# Altium schematic symbol library Schematic-Lib-ABahlmann-CON.SchLib: 147 symbols (part 1 of 2)
Pins are listed as number, name and electrical type; pins without a type are passive.

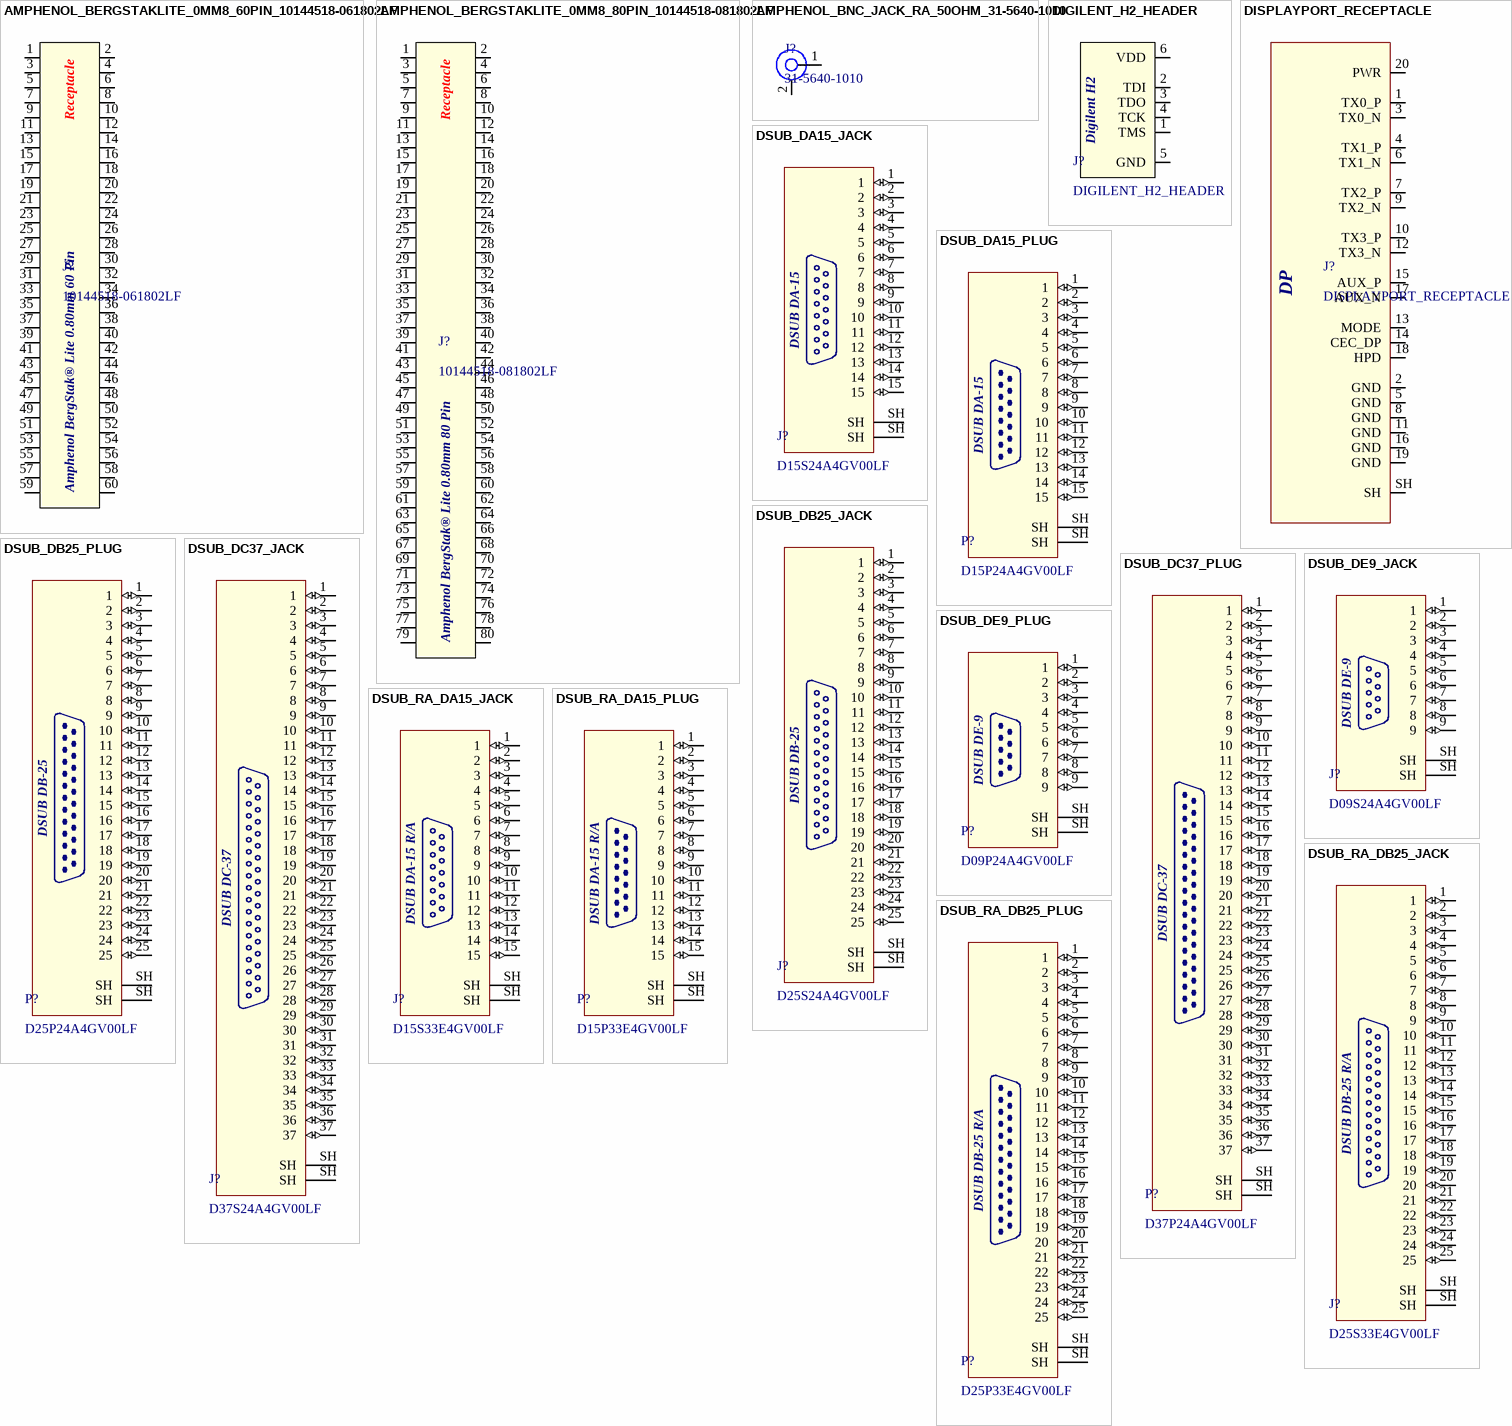
[diagram p0: symbols AMPHENOL_BERGSTAKLITE_0MM8_60PIN_10144518-061802LF to DSUB_RA_DB25_PLUG]

## AMPHENOL_BERGSTAKLITE_0MM8_60PIN_10144518-061802LF
designator J?, comment 10144518-061802LF
BergStak® Lite 0.80mm, 60 Position Connector Plug, Center Strip Contacts Surface Mount Gold; ComponentLink1Description: Digikey; ComponentLink1URL: https://www.digikey.com/en/products/detail/amphenol-cs-fci/10144518-061802LF/8572990; ComponentLink2Description: Datasheet; ComponentLink2URL: https://cdn.amphenol-cs.com/media/wysiwyg/files/documentation/datasheet/boardwiretoboard/bwb_bergstak_lite_0_80mm.pdf
footprint AMPHENOL_BERGSTAKLITE_0MM8_60PIN_10144518-061802LF (BergStak® Lite 0.80mm, 60 Position Connector Plug, Center Strip Contacts Surface Mount Gold)
pins: 1, 2, 3, 4, 5, 6, 7, 8, 9, 10, 11, 12, 13, 14, 15, 16, 17, 18, 19, 20, 21, 22, 23, 24, 25, 26, 27, 28, 29, 30, 31, 32, 33, 34, 35, 36, 37, 38, 39, 40, 41, 42, 43, 44, 45, 46, 47, 48, 49, 50, 51, 52, 53, 54, 55, 56, 57, 58, 59, 60
text: Receptacle; Amphenol BergStak® Lite 0.80mm 60 Pin

## AMPHENOL_BERGSTAKLITE_0MM8_80PIN_10144518-081802LF
designator J?, comment 10144518-081802LF
BergStak® Lite 0.80mm, 80 Position Connector Plug, Center Strip Contacts Surface Mount Gold; ComponentLink1Description: Digikey; ComponentLink1URL: https://www.digikey.com/en/products/detail/amphenol-cs-fci/10144518-081802LF/8572994; ComponentLink2Description: Datasheet; ComponentLink2URL: https://cdn.amphenol-cs.com/media/wysiwyg/files/documentation/datasheet/boardwiretoboard/bwb_bergstak_lite_0_80mm.pdf
footprint AMPHENOL_BERGSTAKLITE_0MM8_80PIN_10144518-081802LF (BergStak® Lite 0.80mm, 80 Position Connector Plug, Center Strip Contacts Surface Mount Gold)
pins: 1, 2, 3, 4, 5, 6, 7, 8, 9, 10, 11, 12, 13, 14, 15, 16, 17, 18, 19, 20, 21, 22, 23, 24, 25, 26, 27, 28, 29, 30, 31, 32, 33, 34, 35, 36, 37, 38, 39, 40, 41, 42, 43, 44, 45, 46, 47, 48, 49, 50, 51, 52, 53, 54, 55, 56, 57, 58, 59, 60, 61, 62, 63, 64, 65, 66, 67, 68, 69, 70, 71, 72, 73, 74, 75, 76, 77, 78, 79, 80
text: Receptacle; Amphenol BergStak® Lite 0.80mm 80 Pin

## AMPHENOL_BNC_JACK_RA_50OHM_31-5640-1010
designator J?, comment 31-5640-1010
BNC Connector Jack, Female Socket 50 Ohms Panel Mount, Through Hole, Right Angle Solder; ComponentLink1Description: Digikey; ComponentLink1URL: https://www.digikey.ca/en/products/detail/amphenol-rf/31-5640-1010/241378; ComponentLink2Description: Datasheet; ComponentLink2URL: https://mm.digikey.com/Volume0/opasdata/d220001/medias/docus/6155/tmp_187197.tmp.pdf
footprint AMPHENOL_BNC_JACK_RA_50OHM_31-5640-1010 (BNC Connector Jack, Female Socket 50 Ohms Panel Mount, Through Hole, Right Angle Solder)
pins: 1 SIG, 2 GND

## DIGILENT_H2_HEADER
designator J?
Digilent HS2 6-Pin 2.54mm Pitch Header; ComponentLink1Description: Digikey; ComponentLink1URL: https://www.digikey.ca/en/products/detail/digilent-inc/410-249/3902812; ComponentLink2Description: Datasheet; ComponentLink2URL: https://digilent.com/reference/_media/jtag_hs2:jtag-hs2_rm.pdf; ComponentLink3Description: Digilent; ComponentLink3URL: https://digilent.com/shop/jtag-hs2-programming-cable/; ComponentLink4Description: Mouser; ComponentLink4URL: https://www.mouser.com/ProductDetail/Digilent/410-249?qs=WbxR7jUW5e8WiXE9RF7X0A%3D%3D
footprint DIGILENT_H2_HEADER (Digilent HS2 6-Pin 2.54mm Pitch Header)
pins: 1 TMS, 2 TDI, 3 TDO, 4 TCK, 5 GND, 6 VDD
text: Digilent H2

## DISPLAYPORT_RECEPTACLE
designator J?
DisplayPort Receptacle, Right-Angle
pins: 1 TX0_P, 2 GND, 3 TX0_N, 4 TX1_P, 5 GND, 6 TX1_N, 7 TX2_P, 8 GND, 9 TX2_N, 10 TX3_P, 11 GND, 12 TX3_N, 13 MODE, 14 CEC_DP, 15 AUX_P, 16 GND, 17 AUX_N, 18 HPD, 19 GND, 20 PWR, SH
text: DP

## DSUB_DA15_JACK
designator J?, comment D15S24A4GV00LF
15 Position D-Sub Receptacle, Female Sockets Connector.; ComponentLink1Description: Digikey; ComponentLink1URL: https://www.digikey.ca/en/products/detail/amphenol-cs-fci/D15S24A4GV00LF/1001811; ComponentLink2Description: Datasheet; ComponentLink2URL: https://mm.digikey.com/Volume0/opasdata/d220001/medias/docus/6257/io_dsub_brochure.pdf
footprint DSUB_DA15_JACK (15 Position D-Sub Receptacle, Female Sockets Connector. PN: D15S24A4GV00LF)
footprint DSUB_RA_DA15_JACK (15 Position D-Sub Receptacle, Right Angle, Female Sockets Connector. PN: D15S33E4GV00LF)
pins: 1 (io), 2 (io), 3 (io), 4 (io), 5 (io), 6 (io), 7 (io), 8 (io), 9 (io), 10 (io), 11 (io), 12 (io), 13 (io), 14 (io), 15 (io), SH, SH
text: DSUB DA-15

## DSUB_DA15_PLUG
designator P?, comment D15P24A4GV00LF
15 Position D-Sub Plug, Male Pins Connector; ComponentLink1Description: Digikey; ComponentLink1URL: https://www.digikey.ca/en/products/detail/amphenol-cs-fci/D15P24A4GV00LF/1001805; ComponentLink2Description: Datahseet; ComponentLink2URL: https://cdn.amphenol-cs.com/media/wysiwyg/files/documentation/datasheet/inputoutput/io_dsub_brochure.pdf
pins: 1 (io), 2 (io), 3 (io), 4 (io), 5 (io), 6 (io), 7 (io), 8 (io), 9 (io), 10 (io), 11 (io), 12 (io), 13 (io), 14 (io), 15 (io), SH, SH
text: DSUB DA-15

## DSUB_DB25_JACK
designator J?, comment D25S24A4GV00LF
25 Position D-Sub Receptacle, Female Sockets Connector; ComponentLink1Description: Digikey; ComponentLink1URL: https://www.digikey.ca/en/products/detail/amphenol-cs-fci/D25S24A4GV00LF/1001823; ComponentLink2Description: Datasheet; ComponentLink2URL: https://mm.digikey.com/Volume0/opasdata/d220001/medias/docus/6257/io_dsub_brochure.pdf
footprint DSUB_DB25_JACK (25 Position D-Sub Receptacle, Female Sockets Connector. PN: D25S24A4GV00LF)
footprint DSUB_RA_DB25_JACK (25 Position D-Sub Receptacle, Right Angle, Female Sockets Connector. PN: D25S33E4GV00LF)
pins: 1 (io), 2 (io), 3 (io), 4 (io), 5 (io), 6 (io), 7 (io), 8 (io), 9 (io), 10 (io), 11 (io), 12 (io), 13 (io), 14 (io), 15 (io), 16 (io), 17 (io), 18 (io), 19 (io), 20 (io), 21 (io), 22 (io), 23 (io), 24 (io), 25 (io), SH, SH
text: DSUB DB-25

## DSUB_DB25_PLUG
designator P?, comment D25P24A4GV00LF
25 Position D-Sub Plug, Male Pins Connector; ComponentLink1Description: Digikey; ComponentLink1URL: https://www.digikey.ca/en/products/detail/amphenol-cs-fci/D25P24A4GV00LF/1001817; ComponentLink2Description: Datahseet; ComponentLink2URL: https://mm.digikey.com/Volume0/opasdata/d220001/medias/docus/6257/io_dsub_brochure.pdf
pins: 1 (io), 2 (io), 3 (io), 4 (io), 5 (io), 6 (io), 7 (io), 8 (io), 9 (io), 10 (io), 11 (io), 12 (io), 13 (io), 14 (io), 15 (io), 16 (io), 17 (io), 18 (io), 19 (io), 20 (io), 21 (io), 22 (io), 23 (io), 24 (io), 25 (io), SH, SH
text: DSUB DB-25

## DSUB_DC37_JACK
designator J?, comment D37S24A4GV00LF
37 Position D-Sub Receptacle, Female Sockets Connector; ComponentLink1Description: Digikey; ComponentLink1URL: https://www.digikey.com/en/products/detail/amphenol-cs-fci/D37S24A4GV00LF/1536825; ComponentLink2Description: Datasheet; ComponentLink2URL: https://mm.digikey.com/Volume0/opasdata/d220001/medias/docus/6257/io_dsub_brochure.pdf
footprint DSUB_DC37_JACK (37 Position D-Sub Receptacle, Female Sockets Connector. PN: D37S24A4GV00LF)
footprint DSUB_RA_DC37_JACK (37 Position D-Sub Receptacle, Right Angle, Female Sockets Connector. PN: D37S33E4GV00LF)
pins: 1 (io), 2 (io), 3 (io), 4 (io), 5 (io), 6 (io), 7 (io), 8 (io), 9 (io), 10 (io), 11 (io), 12 (io), 13 (io), 14 (io), 15 (io), 16 (io), 17 (io), 18 (io), 19 (io), 20 (io), 21 (io), 22 (io), 23 (io), 24 (io), 25 (io), 26 (io), 27 (io), 28 (io), 29 (io), 30 (io), 31 (io), 32 (io), 33 (io), 34 (io), 35 (io), 36 (io), 37 (io), SH, SH
text: DSUB DC-37

## DSUB_DC37_PLUG
designator P?, comment D37P24A4GV00LF
37 Position D-Sub Plug, Male Pins Connector; ComponentLink1Description: Digikey; ComponentLink1URL: https://www.digikey.ca/en/products/detail/amphenol-cs-fci/D37P24A4GV00LF/1536960; ComponentLink2Description: Datasheet; ComponentLink2URL: https://mm.digikey.com/Volume0/opasdata/d220001/medias/docus/6257/io_dsub_brochure.pdf
pins: 1 (io), 2 (io), 3 (io), 4 (io), 5 (io), 6 (io), 7 (io), 8 (io), 9 (io), 10 (io), 11 (io), 12 (io), 13 (io), 14 (io), 15 (io), 16 (io), 17 (io), 18 (io), 19 (io), 20 (io), 21 (io), 22 (io), 23 (io), 24 (io), 25 (io), 26 (io), 27 (io), 28 (io), 29 (io), 30 (io), 31 (io), 32 (io), 33 (io), 34 (io), 35 (io), 36 (io), 37 (io), SH, SH
text: DSUB DC-37

## DSUB_DE9_JACK
designator J?, comment D09S24A4GV00LF
9 Position D-Sub Receptacle, Female Sockets Connector; ComponentLink1Description: Digikey; ComponentLink1URL: https://www.digikey.ca/en/products/detail/amphenol-cs-fci/D09S24A4GV00LF/1001799; ComponentLink2Description: Datasheet; ComponentLink2URL: https://cdn.amphenol-cs.com/media/wysiwyg/files/documentation/datasheet/inputoutput/io_dsub_brochure.pdf
footprint DSUB_DE9_JACK (9 Position D-Sub Receptacle, Female Sockets Connector. PN: D09S24A4GV00LF)
footprint DSUB_RA_DE9_JACK (9 Position D-Sub Receptacle, Right Angle, Female Sockets Connector. PN: D09S33E4GV00LF)
pins: 1 (io), 2 (io), 3 (io), 4 (io), 5 (io), 6 (io), 7 (io), 8 (io), 9 (io), SH, SH
text: DSUB DE-9

## DSUB_DE9_PLUG
designator P?, comment D09P24A4GV00LF
9 Position D-Sub Plug, Male Pins Connector; ComponentLink1Description: Digikey; ComponentLink1URL: https://www.digikey.ca/en/products/detail/amphenol-cs-fci/D09P24A4GV00LF/1001793; ComponentLink2Description: Datasheet; ComponentLink2URL: https://cdn.amphenol-cs.com/media/wysiwyg/files/documentation/datasheet/inputoutput/io_dsub_brochure.pdf
pins: 1 (io), 2 (io), 3 (io), 4 (io), 5 (io), 6 (io), 7 (io), 8 (io), 9 (io), SH, SH
text: DSUB DE-9

## DSUB_RA_DA15_JACK
designator J?, comment D15S33E4GV00LF
15 Position D-Sub Receptacle, Right Angle, Female Sockets Connector; ComponentLink1Description: Digikey; ComponentLink1URL: https://www.digikey.ca/en/products/detail/amphenol-cs-fci/D15S33E4GV00LF/1001812; ComponentLink2Description: Datasheet; ComponentLink2URL: https://cdn.amphenol-cs.com/media/wysiwyg/files/documentation/datasheet/inputoutput/io_dsub_brochure.pdf
footprint DSUB_RA_DA15_JACK (15 Position D-Sub Receptacle, Right Angle, Female Sockets Connector. PN: D15S33E4GV00LF)
pins: 1 (io), 2 (io), 3 (io), 4 (io), 5 (io), 6 (io), 7 (io), 8 (io), 9 (io), 10 (io), 11 (io), 12 (io), 13 (io), 14 (io), 15 (io), SH, SH
text: DSUB DA-15 R/A

## DSUB_RA_DA15_PLUG
designator P?, comment D15P33E4GV00LF
15 Position D-Sub Plug, Right Angle, Male Pins Connector. See D15P33E6GV00LF for alternative part in stock (ROHS original, ROHS3 new).; ComponentLink1Description: Digikey; ComponentLink1URL: https://www.digikey.ca/en/products/detail/amphenol-cs-fci/D15P33E4GV00LF/1001806; ComponentLink2Description: Datahseet; ComponentLink2URL: https://cdn.amphenol-cs.com/media/wysiwyg/files/documentation/datasheet/inputoutput/io_dsub_brochure.pdf
pins: 1 (io), 2 (io), 3 (io), 4 (io), 5 (io), 6 (io), 7 (io), 8 (io), 9 (io), 10 (io), 11 (io), 12 (io), 13 (io), 14 (io), 15 (io), SH, SH
text: DSUB DA-15 R/A

## DSUB_RA_DB25_JACK
designator J?, comment D25S33E4GV00LF
25 Position D-Sub Receptacle, Right Angle, Female Sockets Connector; ComponentLink1Description: Digikey; ComponentLink1URL: https://www.digikey.ca/en/products/detail/amphenol-cs-fci/D25S33E4GV00LF/1001824; ComponentLink2Description: Datasheet; ComponentLink2URL: https://mm.digikey.com/Volume0/opasdata/d220001/medias/docus/6257/io_dsub_brochure.pdf
footprint DSUB_RA_DB25_JACK (25 Position D-Sub Receptacle, Right Angle, Female Sockets Connector. PN: D25S33E4GV00LF)
pins: 1 (io), 2 (io), 3 (io), 4 (io), 5 (io), 6 (io), 7 (io), 8 (io), 9 (io), 10 (io), 11 (io), 12 (io), 13 (io), 14 (io), 15 (io), 16 (io), 17 (io), 18 (io), 19 (io), 20 (io), 21 (io), 22 (io), 23 (io), 24 (io), 25 (io), SH, SH
text: DSUB DB-25 R/A

## DSUB_RA_DB25_PLUG
designator P?, comment D25P33E4GV00LF
25 Position D-Sub Plug, Right Angle, Male Pins Connector; ComponentLink1Description: Digikey; ComponentLink1URL: https://www.digikey.ca/en/products/detail/amphenol-cs-fci/D25P33E4GV00LF/1001818; ComponentLink2Description: Datahseet; ComponentLink2URL: https://mm.digikey.com/Volume0/opasdata/d220001/medias/docus/6257/io_dsub_brochure.pdf
pins: 1 (io), 2 (io), 3 (io), 4 (io), 5 (io), 6 (io), 7 (io), 8 (io), 9 (io), 10 (io), 11 (io), 12 (io), 13 (io), 14 (io), 15 (io), 16 (io), 17 (io), 18 (io), 19 (io), 20 (io), 21 (io), 22 (io), 23 (io), 24 (io), 25 (io), SH, SH
text: DSUB DB-25 R/A

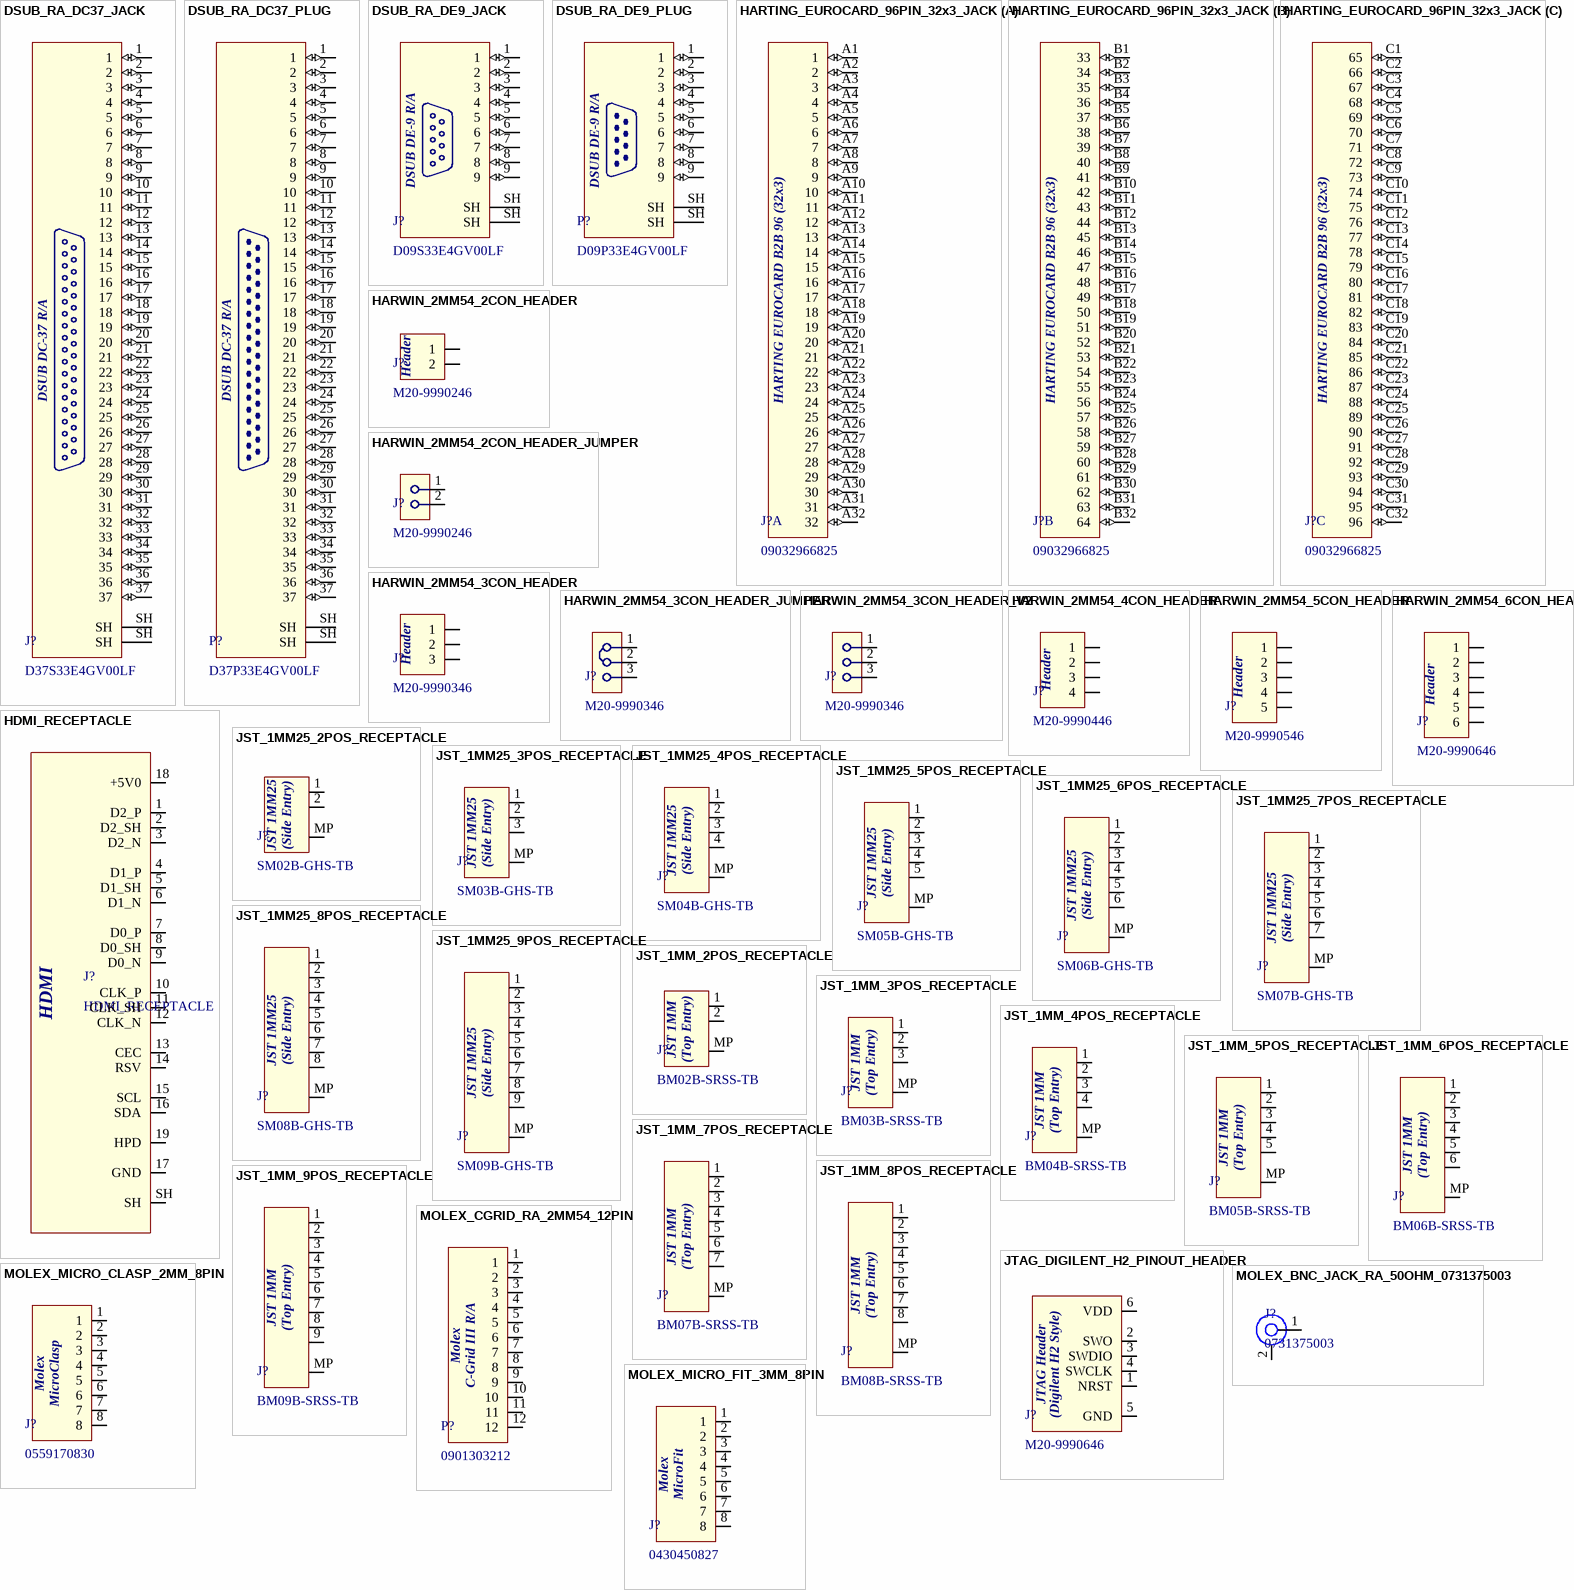
[diagram p1: symbols DSUB_RA_DC37_JACK to MOLEX_MICRO_FIT_3MM_8PIN]

## DSUB_RA_DC37_JACK
designator J?, comment D37S33E4GV00LF
37 Position D-Sub Receptacle, Right Angle, Female Sockets Connector; ComponentLink1Description: Digikey; ComponentLink1URL: https://www.digikey.ca/en/products/detail/amphenol-cs-fci/D37S33E4GV00LF/1539069; ComponentLink2Description: Datasheet; ComponentLink2URL: https://mm.digikey.com/Volume0/opasdata/d220001/medias/docus/6257/io_dsub_brochure.pdf
footprint DSUB_RA_DC37_JACK (37 Position D-Sub Receptacle, Right Angle, Female Sockets Connector. PN: D37S33E4GV00LF)
pins: 1 (io), 2 (io), 3 (io), 4 (io), 5 (io), 6 (io), 7 (io), 8 (io), 9 (io), 10 (io), 11 (io), 12 (io), 13 (io), 14 (io), 15 (io), 16 (io), 17 (io), 18 (io), 19 (io), 20 (io), 21 (io), 22 (io), 23 (io), 24 (io), 25 (io), 26 (io), 27 (io), 28 (io), 29 (io), 30 (io), 31 (io), 32 (io), 33 (io), 34 (io), 35 (io), 36 (io), 37 (io), SH, SH
text: DSUB DC-37 R/A

## DSUB_RA_DC37_PLUG
designator P?, comment D37P33E4GV00LF
37 Position D-Sub Plug, Right Angle, Male Pins Connector; ComponentLink1Description: Digikey; ComponentLink1URL: https://www.digikey.ca/en/products/detail/amphenol-cs-fci/D37P33E4GV00LF/1538508; ComponentLink2Description: Datasheet; ComponentLink2URL: https://cdn.amphenol-cs.com/media/wysiwyg/files/documentation/datasheet/inputoutput/io_dsub_brochure.pdf
pins: 1 (io), 2 (io), 3 (io), 4 (io), 5 (io), 6 (io), 7 (io), 8 (io), 9 (io), 10 (io), 11 (io), 12 (io), 13 (io), 14 (io), 15 (io), 16 (io), 17 (io), 18 (io), 19 (io), 20 (io), 21 (io), 22 (io), 23 (io), 24 (io), 25 (io), 26 (io), 27 (io), 28 (io), 29 (io), 30 (io), 31 (io), 32 (io), 33 (io), 34 (io), 35 (io), 36 (io), 37 (io), SH, SH
text: DSUB DC-37 R/A

## DSUB_RA_DE9_JACK
designator J?, comment D09S33E4GV00LF
9 Position D-Sub Receptacle, Right Angle, Female Sockets Connector; ComponentLink1Description: Digikey; ComponentLink1URL: https://www.digikey.com/en/products/detail/amphenol-cs-fci/D09S33E4GV00LF/1001800; ComponentLink2Description: Datasheet; ComponentLink2URL: https://mm.digikey.com/Volume0/opasdata/d220001/medias/docus/6257/io_dsub_brochure.pdf
footprint DSUB_RA_DE9_JACK (9 Position D-Sub Receptacle, Right Angle, Female Sockets Connector. PN: D09S33E4GV00LF)
pins: 1 (io), 2 (io), 3 (io), 4 (io), 5 (io), 6 (io), 7 (io), 8 (io), 9 (io), SH, SH
text: DSUB DE-9 R/A

## DSUB_RA_DE9_PLUG
designator P?, comment D09P33E4GV00LF
9 Position D-Sub Plug, Right Angle, Male Pins Connector; ComponentLink1Description: Digikey; ComponentLink1URL: https://www.digikey.ca/en/products/detail/amphenol-cs-fci/D09P33E4GV00LF/1001794; ComponentLink2Description: Datasheet; ComponentLink2URL: https://mm.digikey.com/Volume0/opasdata/d220001/medias/docus/6257/io_dsub_brochure.pdf
pins: 1 (io), 2 (io), 3 (io), 4 (io), 5 (io), 6 (io), 7 (io), 8 (io), 9 (io), SH, SH
text: DSUB DE-9 R/A

## HARTING_EUROCARD_96PIN_32x3_JACK
designator J?, comment 09032966825
96 Position Din Connector Receptacle, Female Sockets Through Hole; ComponentLink1Description: Digikey; ComponentLink1URL: https://www.digikey.ca/en/products/detail/harting/09032966825/3179780; ComponentLink2Description: Datasheet; ComponentLink2URL: https://b2b.harting.com/files/download/PRD/PDF_DS/PDF_DS_09032100001.pdf
part A pins: A1 1 (io), A2 2 (io), A3 3 (io), A4 4 (io), A5 5 (io), A6 6 (io), A7 7 (io), A8 8 (io), A9 9 (io), A10 10 (io), A11 11 (io), A12 12 (io), A13 13 (io), A14 14 (io), A15 15 (io), A16 16 (io), A17 17 (io), A18 18 (io), A19 19 (io), A20 20 (io), A21 21 (io), A22 22 (io), A23 23 (io), A24 24 (io), A25 25 (io), A26 26 (io), A27 27 (io), A28 28 (io), A29 29 (io), A30 30 (io), A31 31 (io), A32 32 (io)
part B pins: B1 33 (io), B2 34 (io), B3 35 (io), B4 36 (io), B5 37 (io), B6 38 (io), B7 39 (io), B8 40 (io), B9 41 (io), B10 42 (io), B11 43 (io), B12 44 (io), B13 45 (io), B14 46 (io), B15 47 (io), B16 48 (io), B17 49 (io), B18 50 (io), B19 51 (io), B20 52 (io), B21 53 (io), B22 54 (io), B23 55 (io), B24 56 (io), B25 57 (io), B26 58 (io), B27 59 (io), B28 60 (io), B29 61 (io), B30 62 (io), B31 63 (io), B32 64 (io)
part C pins: C1 65 (io), C2 66 (io), C3 67 (io), C4 68 (io), C5 69 (io), C6 70 (io), C7 71 (io), C8 72 (io), C9 73 (io), C10 74 (io), C11 75 (io), C12 76 (io), C13 77 (io), C14 78 (io), C15 79 (io), C16 80 (io), C17 81 (io), C18 82 (io), C19 83 (io), C20 84 (io), C21 85 (io), C22 86 (io), C23 87 (io), C24 88 (io), C25 89 (io), C26 90 (io), C27 91 (io), C28 92 (io), C29 93 (io), C30 94 (io), C31 95 (io), C32 96 (io)
part A text: HARTING EUROCARD B2B 96 (32x3)
part B text: HARTING EUROCARD B2B 96 (32x3)
part C text: HARTING EUROCARD B2B 96 (32x3)

## HARWIN_2MM54_2CON_HEADER
designator J?, comment M20-9990246
Connector Header Through Hole 2 position 0.100" (2.54mm). See M20-9990245 for gold plated version.; ComponentLink1Description: Digikey; ComponentLink1URL: https://www.digikey.ca/en/products/detail/harwin-inc/M20-9990246/3728226; ComponentLink2Description: Datasheet; ComponentLink2URL: https://content.harwin.com/m/847482046069c548/original/PD008-Product-Datasheet-INDESS-range-M20-and-M22-BBi.pdf; ComponentLink3Description: LCSC; ComponentLink3URL: https://www.lcsc.com/product-detail/C3332353.html?s_z=n_M20-9990246
footprint HEADER_2MM54_2CON (Connector Header Through Hole 2 position 0.100" (2.54mm))
pins: 1, 2
text: Header

## HARWIN_2MM54_2CON_HEADER_JUMPER
designator J?, comment M20-9990246
Connector Header Through Hole 2 position 0.100" (2.54mm). See M20-9990245 for gold plated version.; ComponentLink1Description: Digikey; ComponentLink1URL: https://www.digikey.ca/en/products/detail/harwin-inc/M20-9990246/3728226; ComponentLink2Description: Datasheet; ComponentLink2URL: https://content.harwin.com/m/847482046069c548/original/PD008-Product-Datasheet-INDESS-range-M20-and-M22-BBi.pdf; ComponentLink3Description: LCSC; ComponentLink3URL: https://www.lcsc.com/product-detail/C3332353.html?s_z=n_M20-9990246
footprint HEADER_2MM54_2CON (Connector Header Through Hole 2 position 0.100" (2.54mm))
pins: 1, 2

## HARWIN_2MM54_3CON_HEADER
designator J?, comment M20-9990346
Connector Header Through Hole 3 position 0.100" (2.54mm). See M20-9990345 for gold plated version.; ComponentLink1Description: Digikey; ComponentLink1URL: https://www.digikey.ca/en/products/detail/harwin-inc/M20-9990346/3728228; ComponentLink2Description: Datasheet; ComponentLink2URL: https://content.harwin.com/m/847482046069c548/original/PD008-Product-Datasheet-INDESS-range-M20-and-M22-BBi.pdf; ComponentLink3Description: LCSC; ComponentLink3URL: https://www.lcsc.com/product-detail/C5355646.html
footprint HEADER_2MM54_3CON (Connector Header Through Hole 3 position 0.100" (2.54mm))
pins: 1, 2, 3
text: Header

## HARWIN_2MM54_3CON_HEADER_JUMPER
designator J?, comment M20-9990346
Connector Header Through Hole 3 position 0.100" (2.54mm). See M20-9990345 for gold plated version.; ComponentLink1Description: Digikey; ComponentLink1URL: https://www.digikey.ca/en/products/detail/harwin-inc/M20-9990346/3728228; ComponentLink2Description: Datasheet; ComponentLink2URL: https://content.harwin.com/m/847482046069c548/original/PD008-Product-Datasheet-INDESS-range-M20-and-M22-BBi.pdf; ComponentLink3Description: LCSC; ComponentLink3URL: https://www.lcsc.com/product-detail/C5355646.html
footprint HEADER_2MM54_3CON (Connector Header Through Hole 3 position 0.100" (2.54mm))
pins: 1, 2, 3

## HARWIN_2MM54_3CON_HEADER_V2
designator J?, comment M20-9990346
Connector Header Through Hole 3 position 0.100" (2.54mm). See M20-9990345 for gold plated version.; ComponentLink1Description: Digikey; ComponentLink1URL: https://www.digikey.ca/en/products/detail/harwin-inc/M20-9990346/3728228; ComponentLink2Description: Datasheet; ComponentLink2URL: https://content.harwin.com/m/847482046069c548/original/PD008-Product-Datasheet-INDESS-range-M20-and-M22-BBi.pdf; ComponentLink3Description: LCSC; ComponentLink3URL: https://www.lcsc.com/product-detail/C5355646.html
footprint HEADER_2MM54_3CON (Connector Header Through Hole 3 position 0.100" (2.54mm))
pins: 1, 2, 3

## HARWIN_2MM54_4CON_HEADER
designator J?, comment M20-9990446
Connector Header Through Hole 4 position 0.100" (2.54mm). See M20-9990445 for gold plated version.
footprint HEADER_2MM54_4CON (Connector Header Through Hole 4 position 0.100" (2.54mm))
pins: 1, 2, 3, 4
text: Header

## HARWIN_2MM54_5CON_HEADER
designator J?, comment M20-9990546
Connector Header Through Hole 5 position 0.100" (2.54mm). See M20-9990545 for gold plated version.
footprint HEADER_2MM54_5CON
pins: 1, 2, 3, 4, 5
text: Header

## HARWIN_2MM54_6CON_HEADER
designator J?, comment M20-9990646
Connector Header Through Hole 6 position 0.100" (2.54mm). See M20-9990645 for gold plated version.
footprint HEADER_2MM54_6CON
pins: 1, 2, 3, 4, 5, 6
text: Header

## HDMI_RECEPTACLE
designator J?
HDMI Receptacle, Right-Angle
pins: 1 D2_P, 2 D2_SH, 3 D2_N, 4 D1_P, 5 D1_SH, 6 D1_N, 7 D0_P, 8 D0_SH, 9 D0_N, 10 CLK_P, 11 CLK_SH, 12 CLK_N, 13 CEC, 14 RSV, 15 SCL, 16 SDA, 17 GND, 18 +5V0, 19 HPD, SH
text: HDMI

## JST_1MM25_2POS_RECEPTACLE
designator J?, comment SM02B-GHS-TB
Connector Header Surface Mount, Right Angle 2 position 0.049" (1.25mm); ComponentLink1Description: Digikey; ComponentLink1URL: https://www.digikey.ca/en/products/detail/jst-sales-america-inc/SM02B-GHS-TB/807786; ComponentLink2Description: Datasheet; ComponentLink2URL: https://www.jst-mfg.com/product/pdf/eng/eGH.pdf
footprint SM02B-GHS-TB
pins: 1, 2, MP
text: JST 1MM25; (Side Entry)

## JST_1MM25_3POS_RECEPTACLE
designator J?, comment SM03B-GHS-TB
Connector Header Surface Mount, Right Angle 3 position 0.049" (1.25mm); ComponentLink1Description: Digikey; ComponentLink1URL: https://www.digikey.ca/en/products/detail/jst-sales-america-inc/SM03B-GHS-TB/807787?s=N4IgTCBcDaIMoFkAMBmAQgWgOIAk4YBU0QBdAXyA; ComponentLink2Description: Datasheet; ComponentLink2URL: https://www.jst-mfg.com/product/pdf/eng/eGH.pdf
footprint SM03B-GHS-TB
pins: 1, 2, 3, MP
text: JST 1MM25; (Side Entry)

## JST_1MM25_4POS_RECEPTACLE
designator J?, comment SM04B-GHS-TB
Connector Header Surface Mount, Right Angle 4 position 0.049" (1.25mm); ComponentLink1Description: Digikey; ComponentLink1URL: https://www.digikey.ca/en/products/detail/jst-sales-america-inc/SM04B-GHS-TB/807788?s=N4IgTCBcDaIMoFkAMAWAQgWgOIAk4YBU0QBdAXyA; ComponentLink2Description: Datasheet; ComponentLink2URL: https://www.jst-mfg.com/product/pdf/eng/eGH.pdf
footprint SM04B-GHS-TB
pins: 1, 2, 3, 4, MP
text: JST 1MM25; (Side Entry)

## JST_1MM25_5POS_RECEPTACLE
designator J?, comment SM05B-GHS-TB
Connector Header Surface Mount, Right Angle 5 position 0.049" (1.25mm); ComponentLink1Description: Digikey; ComponentLink1URL: https://www.digikey.ca/en/products/detail/jst-sales-america-inc/SM05B-GHS-TB/807789?s=N4IgTCBcDaIMoFkAMBWAQgWgOIAk4YBU0QBdAXyA; ComponentLink2Description: Datasheet; ComponentLink2URL: https://www.jst-mfg.com/product/pdf/eng/eGH.pdf
footprint SM05B-GHS-TB
pins: 1, 2, 3, 4, 5, MP
text: JST 1MM25; (Side Entry)

## JST_1MM25_6POS_RECEPTACLE
designator J?, comment SM06B-GHS-TB
Connector Header Surface Mount, Right Angle 6 position 0.049" (1.25mm); ComponentLink1Description: Digikey; ComponentLink1URL: https://www.digikey.ca/en/products/detail/jst-sales-america-inc/SM06B-GHS-TB/807790?s=N4IgTCBcDaIMoFkAMA2AQgWgOIAk4YBU0QBdAXyA; ComponentLink2Description: Datasheet; ComponentLink2URL: https://www.jst-mfg.com/product/pdf/eng/eGH.pdf
footprint SM06B-GHS-TB
pins: 1, 2, 3, 4, 5, 6, MP
text: JST 1MM25; (Side Entry)

## JST_1MM25_7POS_RECEPTACLE
designator J?, comment SM07B-GHS-TB
Connector Header Surface Mount, Right Angle 7 position 0.049" (1.25mm); ComponentLink1Description: Digikey; ComponentLink1URL: https://www.digikey.ca/en/products/detail/jst-sales-america-inc/SM07B-GHS-TB/807791?s=N4IgTCBcDaIMoFkAMB2AQgWgOIAk4YBU0QBdAXyA; ComponentLink2Description: Datasheet; ComponentLink2URL: https://www.jst-mfg.com/product/pdf/eng/eGH.pdf
footprint SM07B-GHS-TB
pins: 1, 2, 3, 4, 5, 6, 7, MP
text: JST 1MM25; (Side Entry)

## JST_1MM25_8POS_RECEPTACLE
designator J?, comment SM08B-GHS-TB
Connector Header Surface Mount, Right Angle 8 position 0.049" (1.25mm); ComponentLink1Description: Digikey; ComponentLink1URL: https://www.digikey.ca/en/products/detail/jst-sales-america-inc/SM08B-GHS-TB/807792?s=N4IgTCBcDaIMoFkAMAOAQgWgOIAk4YBU0QBdAXyA; ComponentLink2Description: Datasheet; ComponentLink2URL: https://www.jst-mfg.com/product/pdf/eng/eGH.pdf
footprint SM08B-GHS-TB
pins: 1, 2, 3, 4, 5, 6, 7, 8, MP
text: JST 1MM25; (Side Entry)

## JST_1MM25_9POS_RECEPTACLE
designator J?, comment SM09B-GHS-TB
Connector Header Surface Mount, Right Angle 9 position 0.049" (1.25mm); ComponentLink1Description: Digikey; ComponentLink1URL: https://www.digikey.ca/en/products/detail/jst-sales-america-inc/SM09B-GHS-TB/807793?s=N4IgTCBcDaIMoFkAMBOAQgWgOIAk4YBU0QBdAXyA; ComponentLink2Description: Datasheet; ComponentLink2URL: https://www.jst-mfg.com/product/pdf/eng/eGH.pdf
footprint SM09B-GHS-TB
pins: 1, 2, 3, 4, 5, 6, 7, 8, 9, MP
text: JST 1MM25; (Side Entry)

## JST_1MM_2POS_RECEPTACLE
designator J?, comment BM02B-SRSS-TB
Connector Header Surface Mount 2 position 0.039" (1.00mm); ComponentLink1Description: Digikey; ComponentLink1URL: https://www.digikey.ca/en/products/detail/jst-sales-america-inc/BM02B-SRSS-TB/926694; ComponentLink2Description: Datasheet; ComponentLink2URL: https://www.jst.com/wp-content/uploads/2021/03/eSR_SZ-new.pdf
footprint BM02B-SRSS-TB
pins: 1, 2, MP
text: JST 1MM; (Top Entry)

## JST_1MM_3POS_RECEPTACLE
designator J?, comment BM03B-SRSS-TB
Connector Header Surface Mount 3 position 0.039" (1.00mm); ComponentLink1Description: Digikey; ComponentLink1URL: https://www.digikey.ca/en/products/detail/jst-sales-america-inc/BM03B-SRSS-TB/926695; ComponentLink2Description: Datasheet; ComponentLink2URL: https://www.jst.com/wp-content/uploads/2021/03/eSR_SZ-new.pdf
footprint BM03B-SRSS-TB
pins: 1, 2, 3, MP
text: JST 1MM; (Top Entry)

## JST_1MM_4POS_RECEPTACLE
designator J?, comment BM04B-SRSS-TB
Connector Header Surface Mount 4 position 0.039" (1.00mm); ComponentLink1Description: Digikey; ComponentLink1URL: https://www.digikey.ca/en/products/detail/jst-sales-america-inc/BM04B-SRSS-TB/926696; ComponentLink2Description: Datasheet; ComponentLink2URL: https://www.jst-mfg.com/product/pdf/eng/eSH.pdf
footprint BM04B-SRSS-TB
pins: 1, 2, 3, 4, MP
text: JST 1MM; (Top Entry)

## JST_1MM_5POS_RECEPTACLE
designator J?, comment BM05B-SRSS-TB
Connector Header Surface Mount 5 position 0.039" (1.00mm); ComponentLink1Description: Digikey; ComponentLink1URL: https://www.digikey.ca/en/products/detail/jst-sales-america-inc/BM05B-SRSS-TB/926697; ComponentLink2Description: Datasheet; ComponentLink2URL: https://mm.digikey.com/Volume0/opasdata/d220001/medias/docus/5562/SH%20Connector.pdf
footprint BM05B-SRSS-TB
pins: 1, 2, 3, 4, 5, MP
text: JST 1MM; (Top Entry)

## JST_1MM_6POS_RECEPTACLE
designator J?, comment BM06B-SRSS-TB
Connector Header Surface Mount 6 position 0.039" (1.00mm); ComponentLink1Description: Digikey; ComponentLink1URL: https://www.digikey.ca/en/products/detail/jst-sales-america-inc/BM06B-SRSS-TB/926698; ComponentLink2Description: Datasheet; ComponentLink2URL: https://www.jst-mfg.com/product/pdf/eng/eSH.pdf
footprint BM06B-SRSS-TB
pins: 1, 2, 3, 4, 5, 6, MP
text: JST 1MM; (Top Entry)

## JST_1MM_7POS_RECEPTACLE
designator J?, comment BM07B-SRSS-TB
Connector Header Surface Mount 7 position 0.039" (1.00mm); ComponentLink1Description: Digikey; ComponentLink1URL: https://www.digikey.ca/en/products/detail/jst-sales-america-inc/BM07B-SRSS-TB/926699; ComponentLink2Description: Datasheet; ComponentLink2URL: https://www.jst-mfg.com/product/pdf/eng/eSH.pdf
footprint BM07B-SRSS-TB
pins: 1, 2, 3, 4, 5, 6, 7, MP
text: JST 1MM; (Top Entry)

## JST_1MM_8POS_RECEPTACLE
designator J?, comment BM08B-SRSS-TB
Connector Header Surface Mount 8 position 0.039" (1.00mm); ComponentLink1Description: Digikey; ComponentLink1URL: https://www.digikey.ca/en/products/detail/jst-sales-america-inc/BM08B-SRSS-TB/926700; ComponentLink2Description: Datasheet; ComponentLink2URL: https://www.jst.com/wp-content/uploads/2021/03/eSR_SZ-new.pdf
footprint BM08B-SRSS-TB
pins: 1, 2, 3, 4, 5, 6, 7, 8, MP
text: JST 1MM; (Top Entry)

## JST_1MM_9POS_RECEPTACLE
designator J?, comment BM09B-SRSS-TB
Connector Header Surface Mount 9 position 0.039" (1.00mm); ComponentLink1Description: Digikey; ComponentLink1URL: https://www.digikey.com/en/products/detail/jst-sales-america-inc/BM09B-SRSS-TB/926701; ComponentLink2Description: Datasheet; ComponentLink2URL: https://www.jst-mfg.com/product/pdf/eng/eSH.pdf
footprint BM09B-SRSS-TB
pins: 1, 2, 3, 4, 5, 6, 7, 8, 9, MP
text: JST 1MM; (Top Entry)

## JTAG_DIGILENT_H2_PINOUT_HEADER
designator J?, comment M20-9990646
JTAG Connector Header Through Hole 6 position 0.100" (2.54mm) using Digilent HS2 style Pinout; ComponentLink1Description: Digikey; ComponentLink1URL: https://www.digikey.ca/en/products/detail/harwin-inc/M20-9990646/3728234; ComponentLink2Description: Datasheet; ComponentLink2URL: https://content.harwin.com/m/847482046069c548/original/PD008-Product-Datasheet-INDESS-range-M20-and-M22-BBi.pdf; ComponentLink3Description: LCSC; ComponentLink3URL: https://www.lcsc.com/product-detail/C3332353.html
footprint DIGILENT_H2_HEADER (Digilent HS2 6-Pin 2.54mm Pitch Header)
pins: 1 NRST, 2 SWO, 3 SWDIO, 4 SWCLK, 5 GND, 6 VDD
text: JTAG Header; (Digilent H2 Style)

## MOLEX_BNC_JACK_RA_50OHM_0731375003
designator J?, comment 0731375003
BNC Connector Jack, Female Socket 50 Ohms Panel Mount, Through Hole, Right Angle Solder; ComponentLink1Description: Digikey; ComponentLink1URL: https://www.digikey.com/en/products/detail/molex/0731375003/1465136; ComponentLink2Description: Datasheet; ComponentLink2URL: https://www.molex.com/content/dam/molex/molex-dot-com/products/automated/en-us/salesdrawingpdf/731/73171/731375003_sd.pdf?inline
pins: 1 SIG, 2 GND

## MOLEX_CGRID_RA_2MM54_12PIN
designator P?, comment 0901303212
Connector Header Through Hole, Right Angle 12 position 0.100" (2.54mm); ComponentLink1Description: Digikey; ComponentLink1URL: https://www.digikey.ca/en/products/detail/molex/0901303212/760990; ComponentLink2Description: Datasheet; ComponentLink2URL: https://www.molex.com/en-us/products/part-detail/901303212?display=pdf
footprint MOLEX_CGRID_RA_2MM54_12PIN (Connector Header Through Hole, Right Angle 12 position 0.100" (2.54mm))
pins: 1, 2, 3, 4, 5, 6, 7, 8, 9, 10, 11, 12
text: Molex; C-Grid III R/A

## MOLEX_MICRO_CLASP_2MM_8PIN
designator J?, comment 0559170830
Connector Header Through Hole 8 position 0.079" (2.00mm); ComponentLink1Description: Digikey; ComponentLink1URL: https://www.digikey.ca/en/products/detail/molex/0559170830/5116100; ComponentLink2Description: Datasheet; ComponentLink2URL: https://www.molex.com/en-us/products/part-detail/559170830?display=pdf
footprint MOLEX_MICRO_CLASP_2MM_8PIN_0559170830 (Connector Header Through Hole 8 position 0.079" (2.00mm))
pins: 1, 2, 3, 4, 5, 6, 7, 8
text: Molex; MicroClasp

## MOLEX_MICRO_FIT_3MM_8PIN
designator J?, comment 0430450827
Connector Header Through Hole 8 position 0.118" (3.00mm); ComponentLink1Description: Digikey; ComponentLink1URL: https://www.digikey.ca/en/products/detail/molex/0430450827/3310208; ComponentLink2Description: Datasheet; ComponentLink2URL: https://www.molex.com/en-us/products/part-detail/430450827?display=pdf
footprint MOLEX_MICRO_FIT_3MM_8PIN (Connector Header Through Hole 8 position 0.118" (3.00mm))
pins: 1, 2, 3, 4, 5, 6, 7, 8
text: Molex; MicroFit

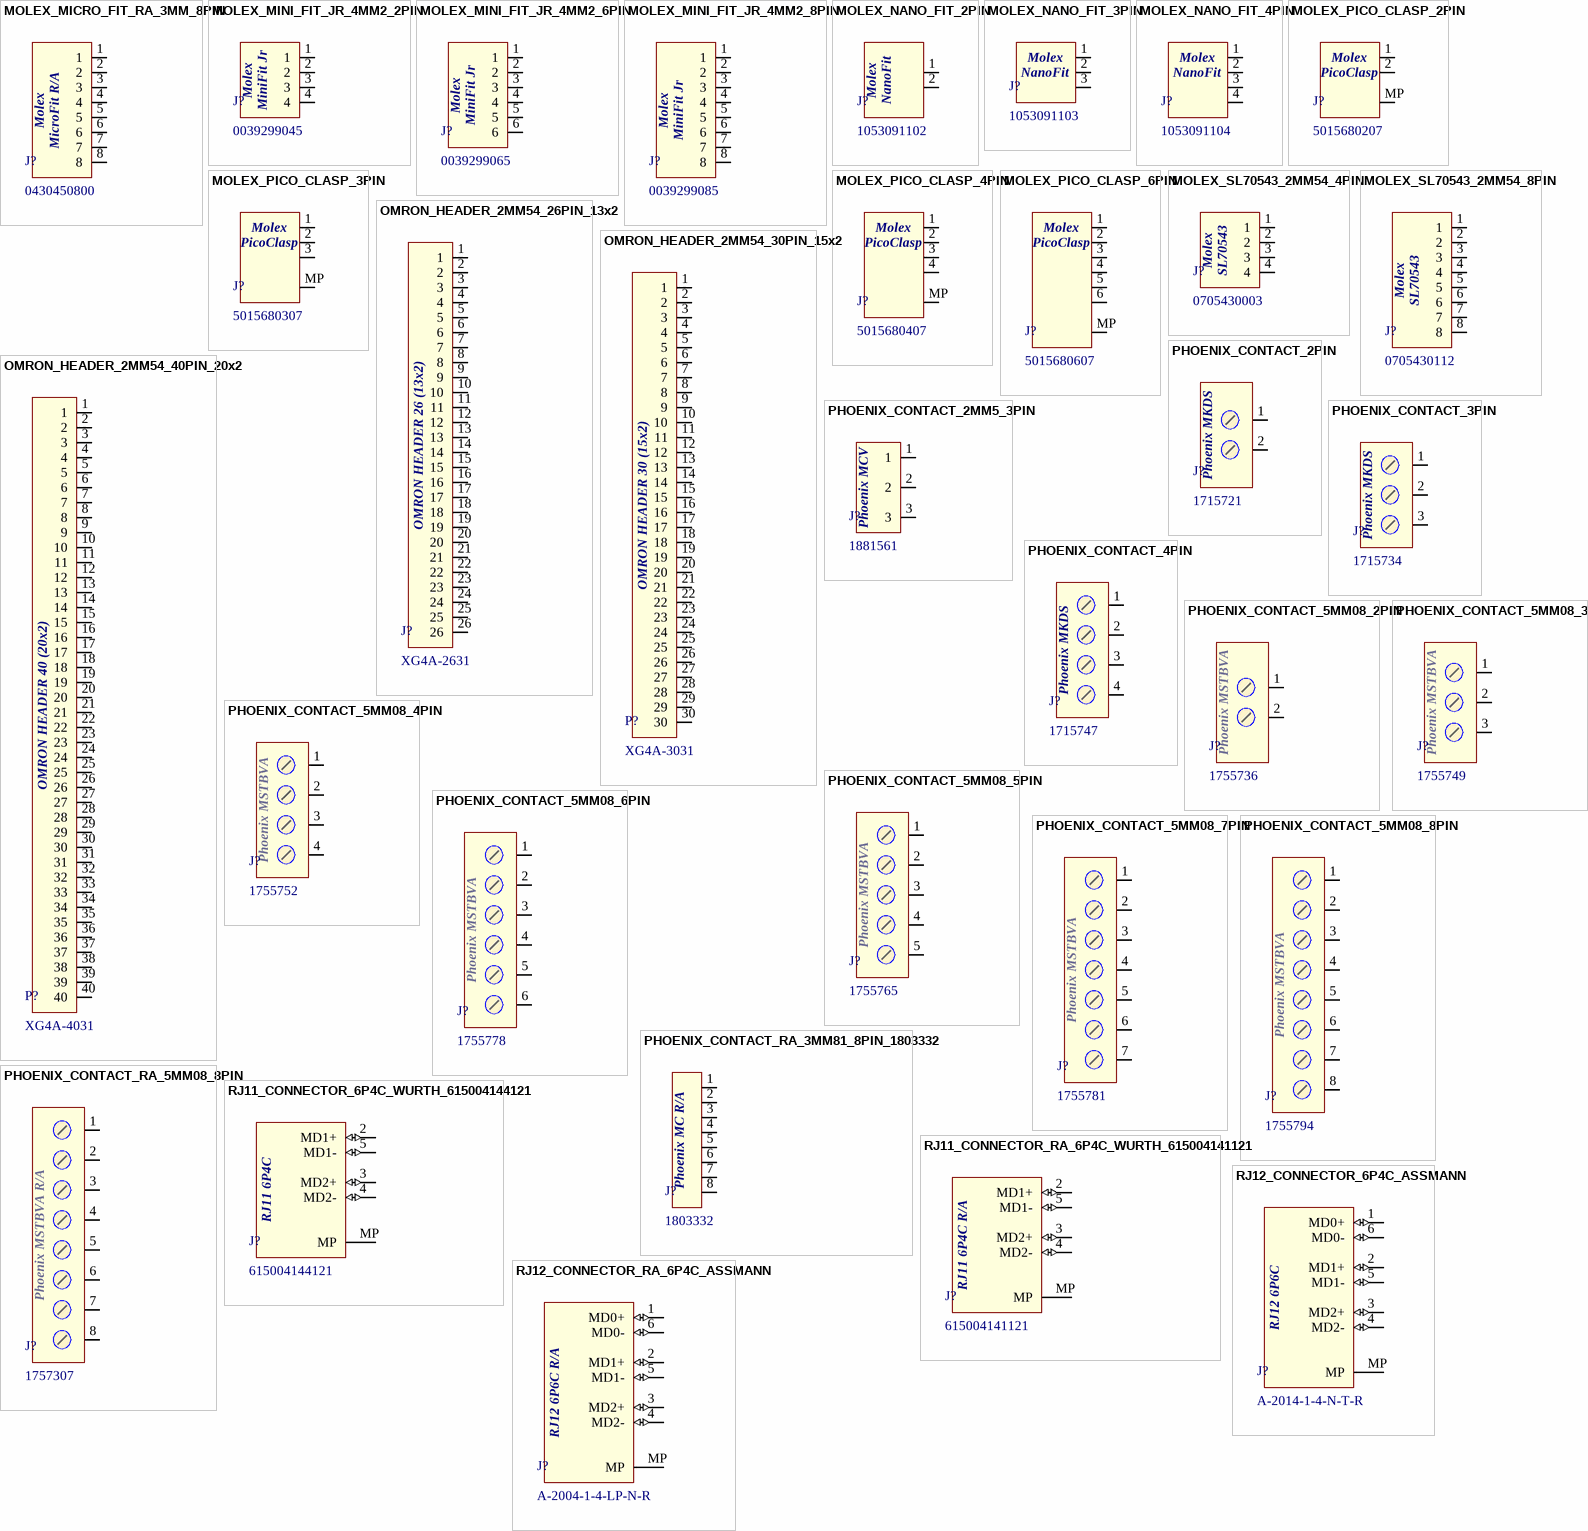
[diagram p2: symbols MOLEX_MICRO_FIT_RA_3MM_8PIN to RJ12_CONNECTOR_RA_6P4C_ASSMANN]

## MOLEX_MICRO_FIT_RA_3MM_8PIN
designator J?, comment 0430450800
Connector Header Through Hole, Right Angle 8 position 0.118" (3.00mm); ComponentLink1Description: Digikey; ComponentLink1URL: https://www.digikey.ca/en/products/detail/molex/0430450800/252529; ComponentLink2Description: Datasheet; ComponentLink2URL: https://www.molex.com/en-us/products/part-detail/430450800?display=pdf
footprint MOLEX_MICRO_FIT_RA_3MM_8PIN (Connector Header Through Hole, Right Angle 8 position 0.118" (3.00mm))
pins: 1, 2, 3, 4, 5, 6, 7, 8
text: Molex; MicroFit R/A

## MOLEX_MINI_FIT_JR_4MM2_2PIN
designator J?, comment 0039299045
Connector Header Through Hole 4 position 0.165" (4.20mm); ComponentLink1Description: Digikey; ComponentLink1URL: https://www.digikey.com/en/products/detail/molex/0039299045/3160171?s=N4IgTCBcDaIAxwMwE4zOXALAVhAXQF8g; ComponentLink2Description: Datasheet; ComponentLink2URL: https://www.molex.com/en-us/products/part-detail-pdf/39299045?display=pdf; ComponentLink3Description: Digikey RA; ComponentLink3URL: https://www.digikey.ca/en/products/detail/molex/0469990014/4553678; ComponentLink4Description: Datasheet RA; ComponentLink4URL: https://www.molex.com/content/dam/molex/molex-dot-com/products/automated/en-us/salesdrawingpdf/556/5569/469990014_sd.pdf?inline
footprint MOLEX_MINI_FIT_JR_4MM2_2PIN (Connector Header Through Hole 4 position 0.165" (4.20mm))
footprint MOLEX_MINI_FIT_JR_4MM2_RA_2PIN (Connector Header Through Hole, Right Angle 4 position 0.165" (4.20mm))
pins: 1, 2, 3, 4
text: Molex; MiniFit Jr

## MOLEX_MINI_FIT_JR_4MM2_6PIN
designator J?, comment 0039299065
Connector Header Through Hole 6 position 0.165" (4.20mm); ComponentLink1Description: Digikey; ComponentLink1URL: https://www.digikey.ca/en/products/detail/molex/0039299065/3160173?s=N4IgTCBcDaIAxwMwE4zOXAbAVhAXQF8g; ComponentLink2Description: Datasheet; ComponentLink2URL: https://www.molex.com/en-us/products/part-detail/39299065?display=pdf
footprint MOLEX_MINI_FIT_JR_4MM2_6PIN (Connector Header Through Hole 8 position 0.165" (4.20mm))
pins: 1, 2, 3, 4, 5, 6
text: Molex; MiniFit Jr

## MOLEX_MINI_FIT_JR_4MM2_8PIN
designator J?, comment 0039299085
Connector Header Through Hole 8 position 0.165" (4.20mm); ComponentLink1Description: Digikey; ComponentLink1URL: https://www.digikey.ca/en/products/detail/molex/0039299085/2405293; ComponentLink2Description: Datasheet; ComponentLink2URL: https://www.molex.com/en-us/products/part-detail/39299085?display=pdf
footprint MOLEX_MINI_FIT_JR_4MM2_8PIN (Connector Header Through Hole 8 position 0.165" (4.20mm))
pins: 1, 2, 3, 4, 5, 6, 7, 8
text: Molex; MiniFit Jr

## MOLEX_NANO_FIT_2PIN
designator J?, comment 1053091102
Connector Header Through Hole 2 position 0.098" (2.50mm); ComponentLink1Description: Digikey; ComponentLink1URL: https://www.digikey.ca/en/products/detail/molex/1053091102/7693146; ComponentLink2Description: Datasheet; ComponentLink2URL: https://tools.molex.com/pdm_docs/sd/1053091102_sd.pdf
pins: 1, 2
text: Molex; NanoFit

## MOLEX_NANO_FIT_3PIN
designator J?, comment 1053091103
Connector Header Through Hole 3 position 0.098" (2.50mm)
pins: 1, 2, 3
text: Molex; NanoFit

## MOLEX_NANO_FIT_4PIN
designator J?, comment 1053091104
Connector Header Through Hole 4 position 0.098" (2.50mm)
pins: 1, 2, 3, 4
text: Molex; NanoFit

## MOLEX_PICO_CLASP_2PIN
designator J?, comment 5015680207
Connector Header Surface Mount, Right Angle 2 position 0.039" (1.00mm)
pins: 1, 2, MP
text: Molex; PicoClasp

## MOLEX_PICO_CLASP_3PIN
designator J?, comment 5015680307
Connector Header Surface Mount, Right Angle 3 position 0.039" (1.00mm)
pins: 1, 2, 3, MP
text: Molex; PicoClasp

## MOLEX_PICO_CLASP_4PIN
designator J?, comment 5015680407
Connector Header Surface Mount, Right Angle 4 position 0.039" (1.00mm)
pins: 1, 2, 3, 4, MP
text: Molex; PicoClasp

## MOLEX_PICO_CLASP_6PIN
designator J?, comment 5015680607
Connector Header Surface Mount, Right Angle 6 position 0.039" (1.00mm)
pins: 1, 2, 3, 4, 5, 6, MP
text: Molex; PicoClasp

## MOLEX_SL70543_2MM54_4PIN
designator J?, comment 0705430003
Connector Header Through Hole 4 position 0.100" (2.54mm); ComponentLink1Description: Digikey; ComponentLink1URL: https://www.digikey.ca/en/products/detail/molex/0705430003/114923; ComponentLink2Description: Datasheet; ComponentLink2URL: https://www.molex.com/pdm_docs/sd/705430001_sd.pdf
pins: 1, 2, 3, 4
text: Molex; SL70543

## MOLEX_SL70543_2MM54_8PIN
designator J?, comment 0705430112
Connector Header Through Hole 8 position 0.100" (2.54mm); ComponentLink1Description: Digikey; ComponentLink1URL: https://www.digikey.com/en/products/detail/molex/0705430112/1643361; ComponentLink2Description: Datasheet; ComponentLink2URL: https://www.molex.com/pdm_docs/sd/705430106_sd.pdf
pins: 1, 2, 3, 4, 5, 6, 7, 8
text: Molex; SL70543

## OMRON_HEADER_2MM54_26PIN_13x2
designator J?, comment XG4A-2631
Connector Header Through Hole 26 position 0.100" (2.54mm); ComponentLink1Description: Digikey; ComponentLink1URL: https://www.digikey.ca/en/products/detail/omron-electronics-inc-emc-div/XG4A-2631/1787150; ComponentLink2Description: Datasheet; ComponentLink2URL: https://omronfs.omron.com/en_US/ecb/products/pdf/en-fcc.pdf
footprint OMRON_HEADER_2MM54_26PIN_15x2_XG4A-2631 (Connector Header Through Hole 26 position 0.100" (2.54mm))
footprint OMRON_HEADER_2MM54_26PIN_15x2_XG4A-2631_NOBOM (Connector Header Through Hole 26 position 0.100" (2.54mm))
footprint OMRON_HEADER_2MM54_26PIN_15x2_XG4A-2631_NOBOM_CUSTOM (Connector Header Through Hole 26 position 0.100" (2.54mm). Custom pin numbering.)
pins: 1, 2, 3, 4, 5, 6, 7, 8, 9, 10, 11, 12, 13, 14, 15, 16, 17, 18, 19, 20, 21, 22, 23, 24, 25, 26
text: OMRON HEADER 26 (13x2)

## OMRON_HEADER_2MM54_30PIN_15x2
designator P?, comment XG4A-3031
Connector Header Through Hole 30 position 0.100" (2.54mm); ComponentLink1Description: Digikey; ComponentLink1URL: https://www.digikey.ca/en/products/detail/omron-electronics-inc-emc-div/XG4A-3031/1787151; ComponentLink2Description: Datasheet; ComponentLink2URL: https://omronfs.omron.com/en_US/ecb/products/pdf/en-fcc.pdf
footprint OMRON_HEADER_2MM54_30PIN_15x2_XG4A-3031 (Connector Header Through Hole 30 position 0.100" (2.54mm))
footprint OMRON_HEADER_2MM54_30PIN_15x2_XG4C-3031 (Connector Header Through Hole 30 position 0.100" (2.54mm))
footprint OMRON_HEADER_2MM54_30PIN_15x2_XG4C-3034 (Connector Header Through Hole, Right Angle 30 position 0.100" (2.54mm))
pins: 1, 2, 3, 4, 5, 6, 7, 8, 9, 10, 11, 12, 13, 14, 15, 16, 17, 18, 19, 20, 21, 22, 23, 24, 25, 26, 27, 28, 29, 30
text: OMRON HEADER 30 (15x2)

## OMRON_HEADER_2MM54_40PIN_20x2
designator P?, comment XG4A-4031
Connector Header Through Hole 40 position 0.100" (2.54mm); ComponentLink1Description: Digikey; ComponentLink1URL: https://www.digikey.ca/en/products/detail/omron-electronics-inc-emc-div/XG4A-4031/1787153?s=N4IgTCBcDaIBoHEAsBBAtEgDAZgIwgF0BfIA; ComponentLink2Description: Datasheet; ComponentLink2URL: https://omronfs.omron.com/en_US/ecb/products/pdf/en-fcc.pdf
footprint OMRON_HEADER_2MM54_40PIN_20x2_XG4A-4031 (Connector Header Through Hole 40 position 0.100" (2.54mm))
footprint OMRON_HEADER_2MM54_40PIN_20x2_XG4C-4031 (Connector Header Through Hole 40 position 0.100" (2.54mm))
pins: 1, 2, 3, 4, 5, 6, 7, 8, 9, 10, 11, 12, 13, 14, 15, 16, 17, 18, 19, 20, 21, 22, 23, 24, 25, 26, 27, 28, 29, 30, 31, 32, 33, 34, 35, 36, 37, 38, 39, 40
text: OMRON HEADER 40 (20x2)

## PHOENIX_CONTACT_2MM5_3PIN
designator J?, comment 1881561
3 Position Terminal Block Header, Male Pins, Shrouded (4 Side) 0.098" (2.50mm) Vertical Through Hole; ComponentLink1Description: Digikey; ComponentLink1URL: https://www.digikey.ca/en/products/detail/phoenix-contact/1881561/308258; ComponentLink2Description: Datasheet; ComponentLink2URL: https://product-download.phoenixcontact.com/3982901?response-content-disposition=inline;%20filename%3D%221881561_00_en_00.pdf%22&Expires=1768070762&Signature=AvMp4ZduxWqKklvASXzaU2niN54CGtxm7vl5kVNZH9XAi19iXrlrYB2ZyRaJkElS0aLCf4H6uEF35~XunHjSM4T5Qk8x9G-VfUoOvp64pH0dm603WeKbyrh8OwlrvMxHMce8HVRVNM7qhNGEsXAaSsMFUVvHRqaLI14I5jIzEYxyB3oOKiUBteekMHEMLq5XNhbcJBWxURsQ14ovBZRF98qUFGBwqgxwmYWk6usgBOoufHQgHqqo5WKJCRjv5o0q5DnMMF7KlfTr4acH6sP9NnOAf9B-Dh2keLOz5gci3S9cBdeZFKXC7Dd1cGAkhDi6kKTAYq7ybTM1~BG7ZrjXhg__&Key-Pair-Id=K1I2N54A7B0GD
footprint PHOENIX_CONTACT_2MM5_3PIN (3 Position Terminal Block Header, Male Pins, Shrouded (4 Side) 0.098" (2.50mm) Vertical Through Hole. PN: 1881561)
pins: 1, 2, 3
text: Phoenix MCV

## PHOENIX_CONTACT_2PIN
designator J?, comment 1715721
2 Position Wire to Board Terminal Block Horizontal with Board 0.200" (5.08mm) Through Hole
pins: 1, 2
text: Phoenix MKDS

## PHOENIX_CONTACT_3PIN
designator J?, comment 1715734
3 Position Wire to Board Terminal Block Horizontal with Board 0.200" (5.08mm) Through Hole
pins: 1, 2, 3
text: Phoenix MKDS

## PHOENIX_CONTACT_4PIN
designator J?, comment 1715747
4 Position Wire to Board Terminal Block Horizontal with Board 0.200" (5.08mm) Through Hole
pins: 1, 2, 3, 4
text: Phoenix MKDS

## PHOENIX_CONTACT_5MM08_2PIN
designator J?, comment 1755736
2 Position Terminal Block Header, Male Pins, Shrouded (4 Side) 0.200" (5.08mm) Vertical Through Hole; ComponentLink1Description: Digikey; ComponentLink1URL: https://www.digikey.ca/en/products/detail/phoenix-contact/1755736/260518
pins: 1, 2
text: Phoenix MSTBVA

## PHOENIX_CONTACT_5MM08_3PIN
designator J?, comment 1755749
3 Position Terminal Block Header, Male Pins, Shrouded (4 Side) 0.200" (5.08mm) Vertical Through Hole; ComponentLink1Description: Digikey; ComponentLink1URL: https://www.digikey.ca/en/products/detail/phoenix-contact/1755749/260519
pins: 1, 2, 3
text: Phoenix MSTBVA

## PHOENIX_CONTACT_5MM08_4PIN
designator J?, comment 1755752
4 Position Terminal Block Header, Male Pins, Shrouded (4 Side) 0.200" (5.08mm) Vertical Through Hole; ComponentLink1Description: Digikey; ComponentLink1URL: https://www.digikey.ca/en/products/detail/phoenix-contact/1755752/260520
pins: 1, 2, 3, 4
text: Phoenix MSTBVA

## PHOENIX_CONTACT_5MM08_5PIN
designator J?, comment 1755765
5 Position Terminal Block Header, Male Pins, Shrouded (4 Side) 0.200" (5.08mm) Vertical Through Hole; ComponentLink1Description: Digikey; ComponentLink1URL: https://www.digikey.ca/en/products/detail/phoenix-contact/1755765/260521
pins: 1, 2, 3, 4, 5
text: Phoenix MSTBVA

## PHOENIX_CONTACT_5MM08_6PIN
designator J?, comment 1755778
6 Position Terminal Block Header, Male Pins, Shrouded (4 Side) 0.200" (5.08mm) Vertical Through Hole; ComponentLink1Description: Digikey; ComponentLink1URL: https://www.digikey.ca/en/products/detail/phoenix-contact/1755778/260522
pins: 1, 2, 3, 4, 5, 6
text: Phoenix MSTBVA

## PHOENIX_CONTACT_5MM08_7PIN
designator J?, comment 1755781
7 Position Terminal Block Header, Male Pins, Shrouded (4 Side) 0.200" (5.08mm) Vertical Through Hole; ComponentLink1Description: Digikey; ComponentLink1URL: https://www.digikey.ca/en/products/detail/phoenix-contact/1755794/260523
pins: 1, 2, 3, 4, 5, 6, 7
text: Phoenix MSTBVA

## PHOENIX_CONTACT_5MM08_8PIN
designator J?, comment 1755794
8 Position Terminal Block Header, Male Pins, Shrouded (4 Side) 0.200" (5.08mm) Vertical Through Hole; ComponentLink1Description: Digikey; ComponentLink1URL: https://www.digikey.ca/en/products/detail/phoenix-contact/1755794/260524
footprint PHOENIX_CONTACT_5MM08_8PIN (8 Position Terminal Block Header, Male Pins, Shrouded (4 Side) 0.200" (5.08mm) Vertical Through Hole. PN: 1755794)
pins: 1, 2, 3, 4, 5, 6, 7, 8
text: Phoenix MSTBVA

## PHOENIX_CONTACT_RA_3MM81_8PIN_1803332
designator J?, comment 1803332
8 Position Terminal Block Header, Male Pins, Shrouded (4 Side) 0.150" (3.81mm) 90°, Right Angle Through Hole; ComponentLink1Description: Digikey; ComponentLink1URL: https://www.digikey.ca/en/products/detail/phoenix-contact/1803332/260580; ComponentLink2Description: Datasheet; ComponentLink2URL: https://www.phoenixcontact.com/en-us/products/pcb-header-mc-15-8-g-381-1803332?type=pdf
pins: 1, 2, 3 (power), 4 (power), 5 (power), 6 (power), 7 (power), 8 (power)
text: Phoenix MC R/A

## PHOENIX_CONTACT_RA_5MM08_8PIN
designator J?, comment 1757307
8 Position Terminal Block Header, Male Pins, Shrouded (4 Side) 0.200" (5.08mm) 90°, Right Angle Through Hole; ComponentLink1Description: Digikey; ComponentLink1URL: https://www.digikey.ca/en/products/detail/phoenix-contact/1757307/260480; ComponentLink2Description: Phoenix Website; ComponentLink2URL: https://www.phoenixcontact.com/en-ca/products/pcb-header-mstba-25-8-g-508-1757307
footprint PHOENIX_CONTACT_RA_5MM08_8PIN (8 Position Terminal Block Header, Male Pins, Shrouded (4 Side) 0.200" (5.08mm) 90°, Right Angle Through Hole)
pins: 1, 2, 3, 4, 5, 6, 7, 8
text: Phoenix MSTBVA R/A

## RJ11_CONNECTOR_6P4C_WURTH_615004144121
designator J?, comment 615004144121
Jack Modular Connector 6p4c (RJ11, RJ14) Vertical Unshielded Cat5; ComponentLink1Description: Digikey; ComponentLink1URL: https://www.digikey.ca/en/products/detail/w%C3%BCrth-elektronik/615004144121/2627288?s=N4IgTCBcDaIOoFUBKAVAEgAgMIHkByeGAsjgCIYBSAglgNIYBsACgCxYYBqAoqhgngGU0ASS4AZUl1IgAugF8gA; ComponentLink2Description: Datasheet; ComponentLink2URL: https://www.we-online.com/components/products/datasheet/615004144121.pdf
footprint RJ11_CONNECTOR_RA_WURTH (Jack Modular Connector 6p4c (RJ11, RJ14) 90° Angle (Right) Unshielded Cat5. PN: 615004141121)
pins: 2 MD1+ (io), 3 MD2+ (io), 4 MD2- (io), 5 MD1- (io), MP
text: RJ11 6P4C

## RJ11_CONNECTOR_RA_6P4C_WURTH_615004141121
designator J?, comment 615004141121
Jack Modular Connector 6p4c (RJ11, RJ14) 90° Angle (Right) Unshielded Cat5; ComponentLink1Description: Digikey; ComponentLink1URL: https://www.digikey.ca/en/products/detail/w%C3%BCrth-elektronik/615004141121/2627283; ComponentLink2Description: Datasheet; ComponentLink2URL: https://www.we-online.com/components/products/datasheet/615004141121.pdf
footprint RJ11_CONNECTOR_RA_WURTH (Jack Modular Connector 6p4c (RJ11, RJ14) 90° Angle (Right) Unshielded Cat5. PN: 615004141121)
pins: 2 MD1+ (io), 3 MD2+ (io), 4 MD2- (io), 5 MD1- (io), MP
text: RJ11 6P4C R/A

## RJ12_CONNECTOR_6P4C_ASSMANN
designator J?, comment A-2014-1-4-N-T-R
Jack Modular Connector 6p6c (RJ11, RJ12, RJ14, RJ25) Vertical Unshielded; ComponentLink1Description: Digikey; ComponentLink1URL: https://www.digikey.ca/en/products/detail/assmann-wsw-components/A-2014-1-4-N-T-R/2183646; ComponentLink2Description: Datasheet; ComponentLink2URL: http://www.assmann-wsw.com/uploads/datasheets/ASS_7328_CO.pdf
footprint RJ12_CONNECTOR_A-2014-1-4-N-T-R (Jack Modular Connector 6p6c (RJ11, RJ12, RJ14, RJ25) Vertical Unshielded)
pins: 1 MD0+ (io), 2 MD1+ (io), 3 MD2+ (io), 4 MD2- (io), 5 MD1- (io), 6 MD0- (io), MP
text: RJ12 6P6C

## RJ12_CONNECTOR_RA_6P4C_ASSMANN
designator J?, comment A-2004-1-4-LP-N-R
Jack Modular Connector 6p6c (RJ11, RJ12, RJ14, RJ25) 90° Angle (Right) Unshielded; ComponentLink1Description: Digikey; ComponentLink1URL: https://www.digikey.ca/en/products/detail/assmann-wsw-components/A-2004-1-4-LP-N-R/2183634; ComponentLink2Description: Datasheet; ComponentLink2URL: https://www.assmann-wsw.com/uploads/datasheets/ASS_7320_CO.PDF
footprint RJ12_CONNECTOR_A-2004-1-4-LP-N-R (Jack Modular Connector 6p6c (RJ11, RJ12, RJ14, RJ25) Vertical Unshielded)
pins: 1 MD0+ (io), 2 MD1+ (io), 3 MD2+ (io), 4 MD2- (io), 5 MD1- (io), 6 MD0- (io), MP
text: RJ12 6P6C R/A

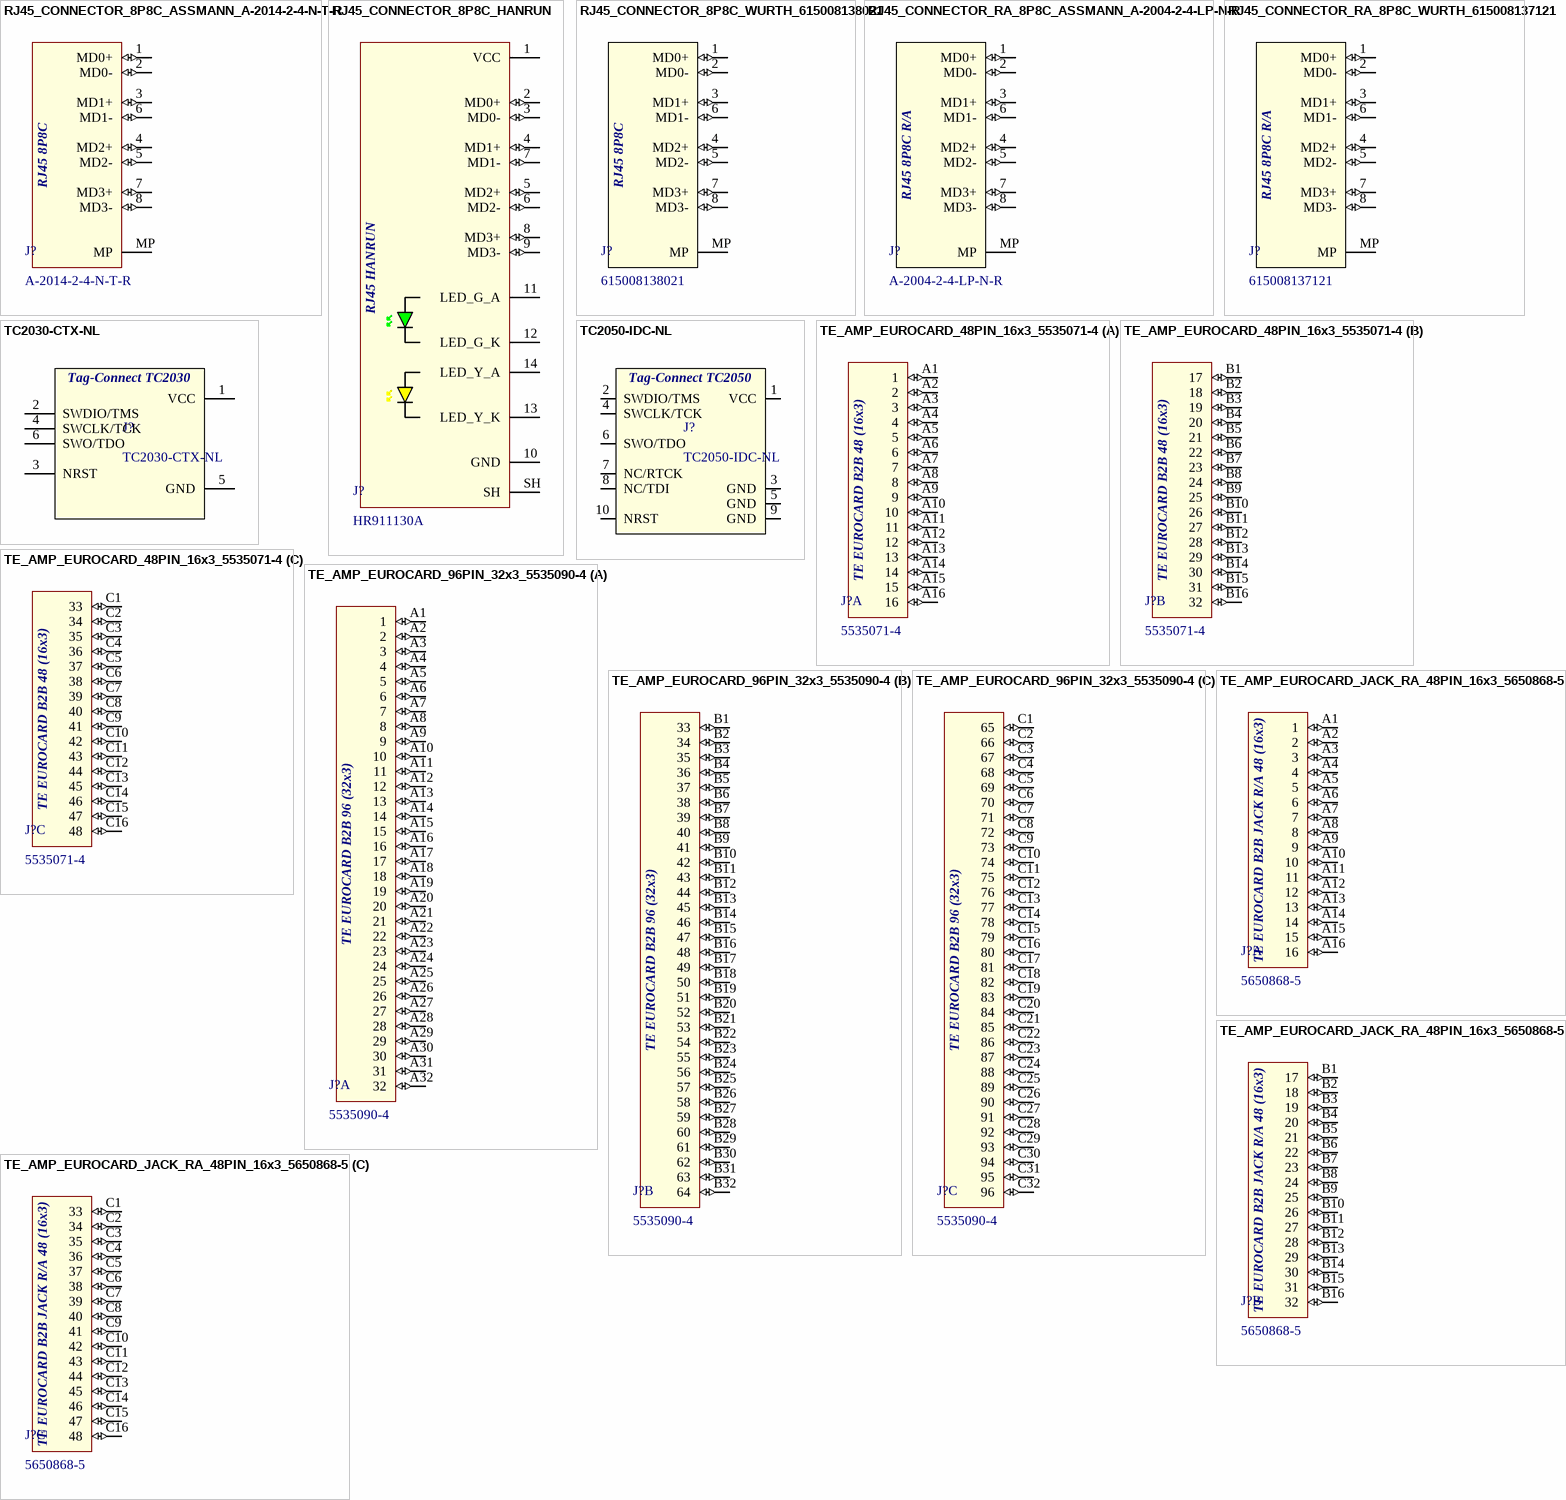
[diagram p3: symbols RJ45_CONNECTOR_8P8C_ASSMANN_A-2014-2-4-N-T-R to TE_AMP_EUROCARD_JACK_RA_48PIN_16x3_5650868-5]

## RJ45_CONNECTOR_8P8C_ASSMANN_A-2014-2-4-N-T-R
designator J?, comment A-2014-2-4-N-T-R
Jack Modular Connector 8p8c (RJ45, Ethernet) Vertical Unshielded; ComponentLink1Description: Digikey; ComponentLink1URL: https://www.digikey.ca/en/products/detail/assmann-wsw-components/A-2014-2-4-N-T-R/2183647; ComponentLink2Description: Datasheet; ComponentLink2URL: http://www.assmann-wsw.com/uploads/datasheets/ASS_7329_CO.pdf
footprint RJ45_CONNECTOR_ASSMANN_A-2014-2-4-N-T-R (Jack Modular Connector 8p8c (RJ45, Ethernet) Vertical Unshielded)
pins: 1 MD0+ (io), 2 MD0- (io), 3 MD1+ (io), 4 MD2+ (io), 5 MD2- (io), 6 MD1- (io), 7 MD3+ (io), 8 MD3- (io), MP
text: RJ45 8P8C

## RJ45_CONNECTOR_8P8C_HANRUN
designator J?, comment HR911130A
1 With LED Through Hole Modular/Ethernet Connector Jacks With Magnetics RoHS; ComponentLink1Description: LCSC; ComponentLink1URL: https://www.lcsc.com/product-detail/C54408.html; ComponentLink2Description: Datasheet; ComponentLink2URL: www.lcsc.com/datasheet/C54408.pdf
pins: 1 VCC (power), 2 MD0+ (io), 3 MD0- (io), 4 MD1+ (io), 5 MD2+ (io), 6 MD2- (io), 7 MD1- (io), 8 MD3+ (io), 9 MD3- (io), 10 GND, 11 LED_G_A, 12 LED_G_K, 13 LED_Y_K, 14 LED_Y_A, SH
text: RJ45 HANRUN

## RJ45_CONNECTOR_8P8C_WURTH_615008138021
designator J?, comment 615008138021
Jack Modular Connector 8p8c (RJ45, Ethernet) Vertical Unshielded Cat5; ComponentLink1Description: Digikey; ComponentLink1URL: https://www.digikey.ca/en/products/detail/w%C3%BCrth-elektronik/615008138021/2508509?s=N4IgTCBcDaIGwEYCsAGFAOBBmdKwJAF0BfIA; ComponentLink2Description: Datasheet; ComponentLink2URL: https://www.we-online.com/components/products/datasheet/615008138021.pdf
footprint RJ45_CONNECTOR_WURTH (CONN MOD JACK 8P8C VERT UNSHLD. PN: 615008138021)
pins: 1 MD0+ (io), 2 MD0- (io), 3 MD1+ (io), 4 MD2+ (io), 5 MD2- (io), 6 MD1- (io), 7 MD3+ (io), 8 MD3- (io), MP
text: RJ45 8P8C

## RJ45_CONNECTOR_RA_8P8C_ASSMANN_A-2004-2-4-LP-N-R
designator J?, comment A-2004-2-4-LP-N-R
Jack Modular Connector 8p8c (RJ45, Ethernet) 90° Angle (Right) Unshielded; ComponentLink1Description: Digikey; ComponentLink1URL: https://www.digikey.ca/en/products/detail/assmann-wsw-components/A-2004-2-4-LP-N-R/2183635; ComponentLink2Description: Datasheet; ComponentLink2URL: http://www.assmann-wsw.com/uploads/datasheets/ASS_7273_CO.pdf
footprint RJ45_CONNECTOR_RA_ASSMANN_A-2004-2-4-LP-N-R (Jack Modular Connector 8p8c (RJ45, Ethernet) 90° Angle (Right) Unshielded)
pins: 1 MD0+ (io), 2 MD0- (io), 3 MD1+ (io), 4 MD2+ (io), 5 MD2- (io), 6 MD1- (io), 7 MD3+ (io), 8 MD3- (io), MP
text: RJ45 8P8C R/A

## RJ45_CONNECTOR_RA_8P8C_WURTH_615008137121
designator J?, comment 615008137121
Jack Modular Connector 8p8c (RJ45, Ethernet) 90° Angle (Right) Unshielded Cat5; ComponentLink1Description: Digikey; ComponentLink1URL: https://www.digikey.ca/en/products/detail/w%C3%BCrth-elektronik/615008137121/2060606; ComponentLink2Description: Datasheet; ComponentLink2URL: https://www.we-online.com/components/products/datasheet/615008137121.pdf
footprint RJ45_CONNECTOR_RA_WURTH (Jack Modular Connector 8p8c (RJ45, Ethernet) 90° Angle (Right) Unshielded Cat5. RN: 615008137121)
pins: 1 MD0+ (io), 2 MD0- (io), 3 MD1+ (io), 4 MD2+ (io), 5 MD2- (io), 6 MD1- (io), 7 MD3+ (io), 8 MD3- (io), MP
text: RJ45 8P8C R/A

## TC2030-CTX-NL
designator J?  (no BOM)
TC2030-CTX-NL 6-Pin “No Legs” Cable with 10-pin micro-connector for Cortex processors (NO BOM); ComponentLink1Description: Tag-Connect; ComponentLink1URL: https://www.tag-connect.com/product/tc2030-ctx-nl-6-pin-no-legs-cable-with-10-pin-micro-connector-for-cortex-processors; ComponentLink2Description: Datasheet; ComponentLink2URL: https://www.tag-connect.com/wp-content/uploads/bsk-pdf-manager/2019/12/TC2030-IDC-NL-Datasheet-Rev-B.pdf; ComponentLink3Description: Pinout; ComponentLink3URL: https://www.tag-connect.com/wp-content/uploads/bsk-pdf-manager/TC2030-CTX_1.pdf
footprint TC2030-NL-FP
footprint TC2030-FP
pins: 1 VCC, 2 SWDIO/TMS, 3 NRST, 4 SWCLK/TCK, 5 GND, 6 SWO/TDO
text: Tag-Connect TC2030